# Altium schematic symbol library WCH-CH32V307RC.SchLib: 1 symbol
Pins are listed as number, name and electrical type; pins without a type are passive.

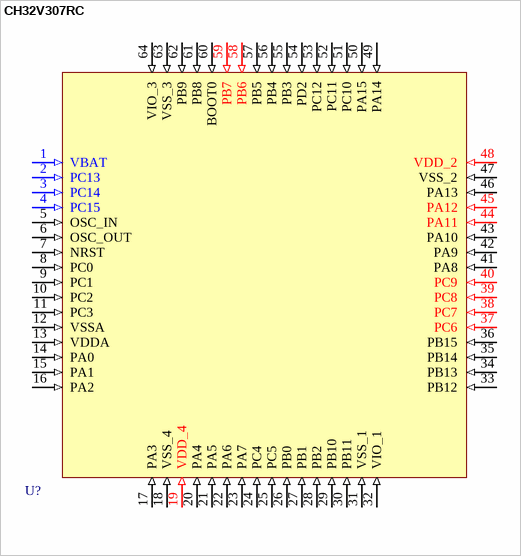
[diagram p0: symbol CH32V307RC]

## CH32V307RC
designator U?
pins: 1 VBAT (in), 2 PC13 (in), 3 PC14 (in), 4 PC15 (in), 5 OSC_IN (in), 6 OSC_OUT (in), 7 NRST (in), 8 PC0 (in), 9 PC1 (in), 10 PC2 (in), 11 PC3 (in), 12 VSSA (in), 13 VDDA (in), 14 PA0 (in), 15 PA1 (in), 16 PA2 (in), 17 PA3 (in), 18 VSS_4 (in), 19 VDD_4 (in), 20 PA4 (in), 21 PA5 (in), 22 PA6 (in), 23 PA7 (in), 24 PC4 (in), 25 PC5 (in), 26 PB0 (in), 27 PB1 (in), 28 PB2 (in), 29 PB10 (in), 30 PB11 (in), 31 VSS_1 (in), 32 VIO_1 (in), 33 PB12 (in), 34 PB13 (in), 35 PB14 (in), 36 PB15 (in), 37 PC6 (in), 38 PC7 (in), 39 PC8 (in), 40 PC9 (in), 41 PA8 (in), 42 PA9 (in), 43 PA10 (in), 44 PA11 (in), 45 PA12 (in), 46 PA13 (in), 47 VSS_2 (in), 48 VDD_2 (in), 49 PA14 (in), 50 PA15 (in), 51 PC10 (in), 52 PC11 (in), 53 PC12 (in), 54 PD2 (in), 55 PB3 (in), 56 PB4 (in), 57 PB5 (in), 58 PB6 (in), 59 PB7 (in), 60 BOOT0 (in), 61 PB8 (in), 62 PB9 (in), 63 VSS_3 (in), 64 VIO_3 (in)